# Altium schematic symbol library SparkFun-Retired.SCHLIB: 390 symbols (part 5 of 5)
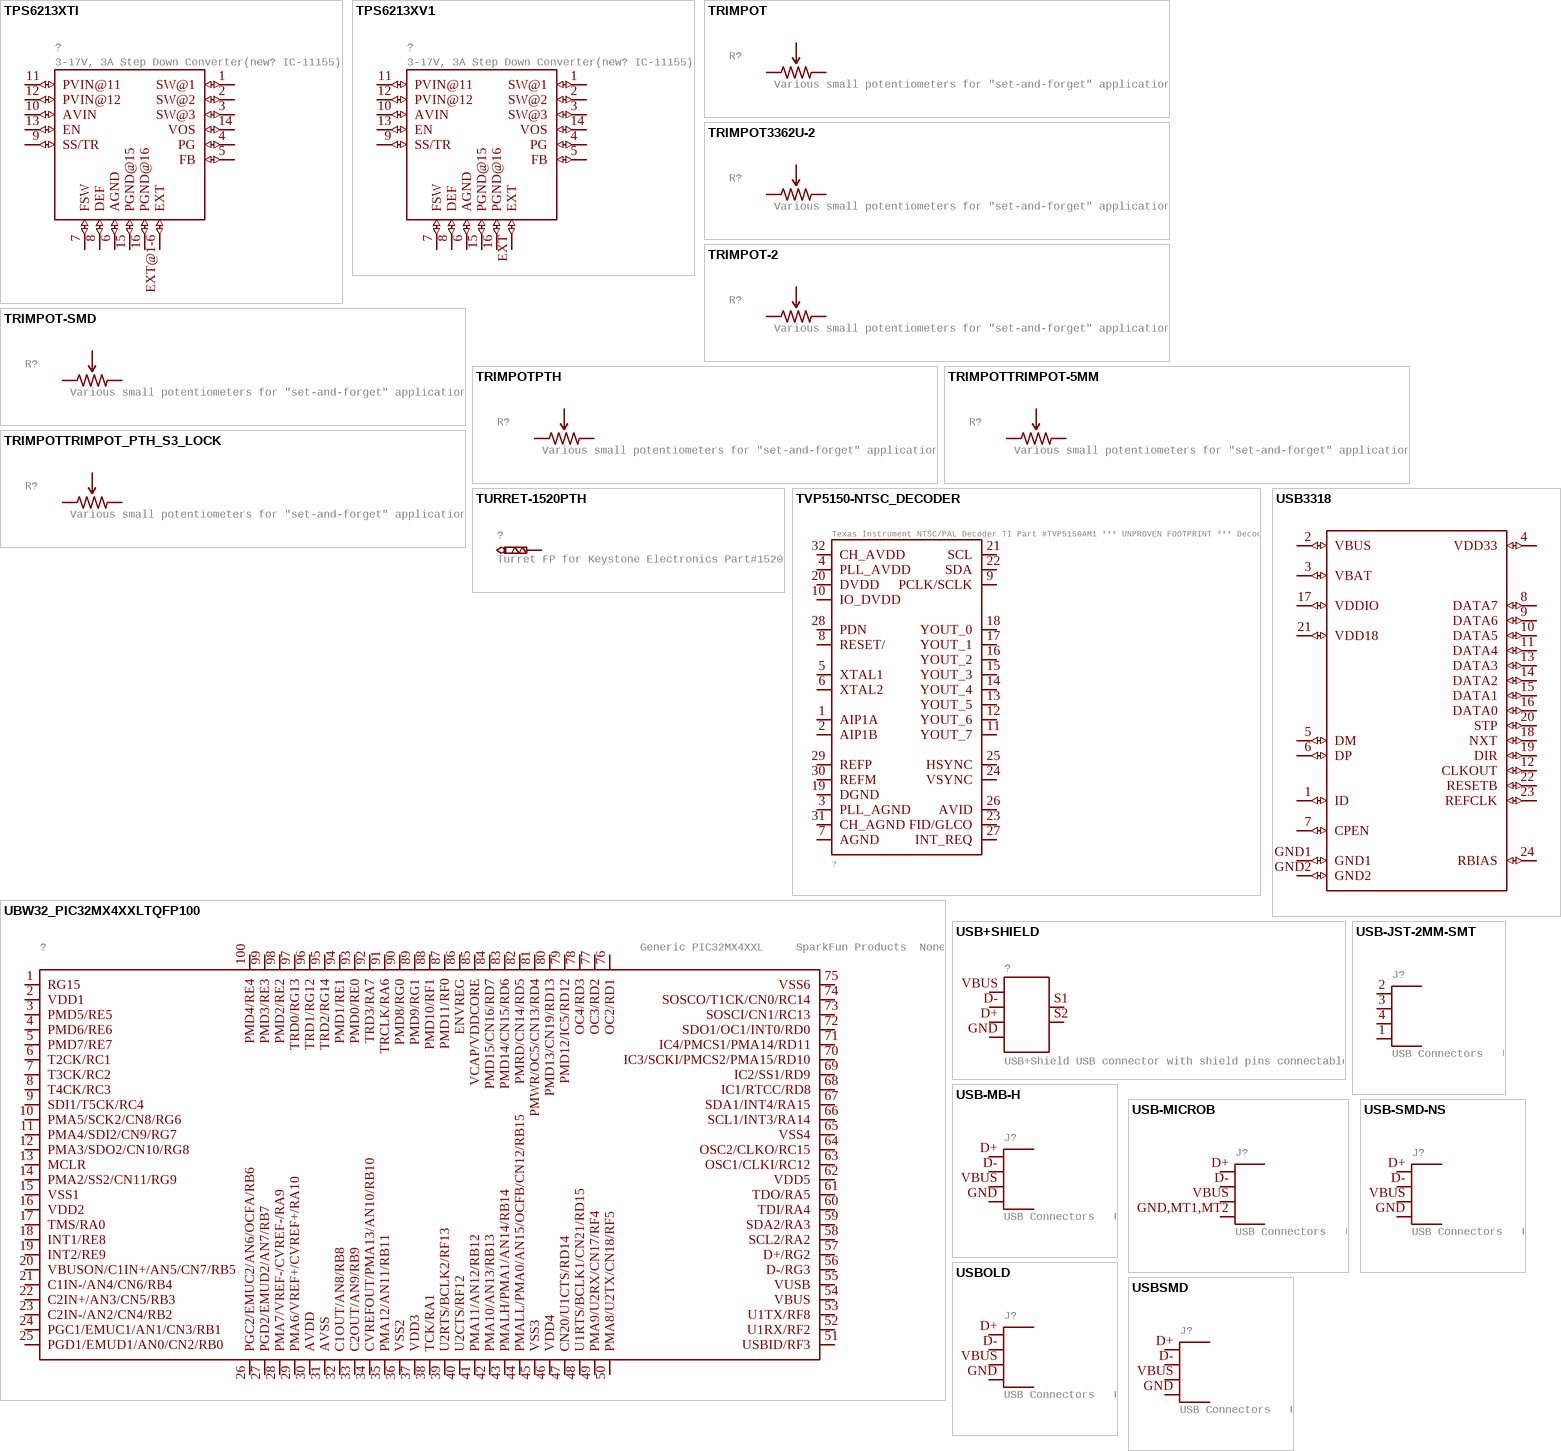
[diagram p30: symbols TPS6213XTI to USBSMD]

## TPS6213XV1
designator ?, comment 3-17V, 3A Step Down Converter(new? IC-11155)
GateName_1: G$1; SymbolName_1: TPS6213X; DeviceName: V1; PROD_ID: IC-11630; LibraryName: SparkFun-Retired; DeviceSetName: TPS6213X; Package: QFN16-3X3MM
footprint QFN16-3X3MM
pins: 1 SW@1 (io), 2 SW@2 (io), 3 SW@3 (io), 4 PG (io), 5 FB (io), 6 AGND (io), 7 FSW (io), 8 DEF (io), 9 SS/TR (io), 10 AVIN (io), 11 PVIN@11 (io), 12 PVIN@12 (io), 13 EN (io), 14 VOS (io), 15 PGND@15 (io), 16 PGND@16 (io), EXT (io)

## TRIMPOT
designator R?, comment Various small potentiometers for "set-and-forget" applications
GateName_1: R?; SymbolName_1: TRIMPOT-1; DeviceSetName: TRIMPOT; LibraryName: SparkFun-Retired; Package: TRIMPOT-5MM-V2
footprint TRIMPOT-5MM-V2
pins: A CCW, B WIPER, C CW

## TRIMPOT3362U-2
designator R?, comment Various small potentiometers for "set-and-forget" applications
GateName_1: R?; SymbolName_1: TRIMPOT-1; DeviceName: 3362U-2; DeviceSetName: TRIMPOT; PROD_ID: RES-08876; LibraryName: SparkFun-Retired; Package: 3362U-2
footprint 3362U-2
pins: 1 CCW, 2 WIPER, 3 CW

## TRIMPOT-2
designator R?, comment Various small potentiometers for "set-and-forget" applications
GateName_1: R?; SymbolName_1: TRIMPOT-1; DeviceName: -2; DeviceSetName: TRIMPOT; LibraryName: SparkFun-Retired; Package: TRIMPOT_TC33
footprint TRIMPOT_TC33
pins: 1 CCW, 2 WIPER, 3 CW

## TRIMPOT-SMD
designator R?, comment Various small potentiometers for "set-and-forget" applications
GateName_1: R?; SymbolName_1: TRIMPOT-1; DeviceName: -SMD; DeviceSetName: TRIMPOT; PROD_ID: RES-08048; LibraryName: SparkFun-Retired; Package: TRIMPOT-3MM
footprint TRIMPOT-3MM
pins: 1 CCW, 2 WIPER, 3 CW

## TRIMPOTPTH
designator R?, comment Various small potentiometers for "set-and-forget" applications
GateName_1: R?; SymbolName_1: TRIMPOT-1; DeviceName: PTH; DeviceSetName: TRIMPOT; PROD_ID: RES-08445; LibraryName: SparkFun-Retired; Package: TRIM_POT_PTH
footprint TRIM_POT_PTH
pins: 1 CCW, 2 WIPER, 3 CW

## TRIMPOTTRIMPOT-5MM
designator R?, comment Various small potentiometers for "set-and-forget" applications
GateName_1: R?; SymbolName_1: TRIMPOT-1; DeviceName: TRIMPOT-5MM; DeviceSetName: TRIMPOT; PROD_ID: RES-11156; LibraryName: SparkFun-Retired; Package: TRIMPOT-5MM
footprint TRIMPOT-5MM
pins: A CCW, B WIPER, C CW

## TRIMPOTTRIMPOT_PTH_S3_LOCK
designator R?, comment Various small potentiometers for "set-and-forget" applications
GateName_1: R?; SymbolName_1: TRIMPOT-1; DeviceName: TRIMPOT_PTH_S3_LOCK; DeviceSetName: TRIMPOT; LibraryName: SparkFun-Retired; Package: TRIMPOT_PTH_S3_LOCK
footprint TRIMPOT_PTH_S3_LOCK
pins: 1 CCW, 2 WIPER, 3 CW

## TURRET-1520PTH
designator ?, comment Turret FP for Keystone Electronics Part#1520
GateName_1: G$1; DeviceName: PTH; PROD_ID: CONN-09156; SymbolName_1: TURRET; LibraryName: SparkFun-Retired; DeviceSetName: TURRET-1520; Package: 1X01_TURRET
footprint 1X01_TURRET
pins: 1 (io)

## TVP5150-NTSC_DECODER
designator ?, comment Texas Instrument NTSC/PAL Decoder TI Part #TVP5150AM1 *** UNPROVEN FOOTPRINT *** Decodes NTSC video signal to YCbCr 4:2:2 signal  Retired: IC-09311 Retired: IC-09080
GateName_1: G$1; SymbolName_1: TVP5150-NTSC_DECODER-1; DeviceSetName: TVP5150-NTSC_DECODER; LibraryName: SparkFun-Retired; Package: TQFP32-5MM
footprint TQFP32-5MM
pins: 1 AIP1A (io), 2 AIP1B (io), 3 PLL_AGND (io), 4 PLL_AVDD (io), 5 XTAL1 (io), 6 XTAL2 (io), 7 AGND (io), 8 RESET/ (io), 9 PCLK/SCLK (io), 10 IO_DVDD (io), 11 YOUT_7 (io), 12 YOUT_6 (io), 13 YOUT_5 (io), 14 YOUT_4 (io), 15 YOUT_3 (io), 16 YOUT_2 (io), 17 YOUT_1 (io), 18 YOUT_0 (io), 19 DGND (io), 20 DVDD (io), 21 SCL (io), 22 SDA (io), 23 FID/GLCO (io), 24 VSYNC (io), 25 HSYNC (io), 26 AVID (io), 27 INT_REQ (io), 28 PDN (io), 29 REFP (io), 30 REFM (io), 31 CH_AGND (io), 32 CH_AVDD (io)

## UBW32_PIC32MX4XXLTQFP100
designator ?, comment Generic PIC32MX4XXL     SparkFun Products  None
GateName_1: G$1; SymbolName_1: UBW32_PIC32MX4XXL; DeviceName: TQFP100; LibraryName: SparkFun-Retired; DeviceSetName: UBW32_PIC32MX4XXL; Package: UBW32_TQFP100_MCU
footprint UBW32_TQFP100_MCU
pins: 1 RG15 (io), 2 VDD1 (io), 3 PMD5/RE5 (io), 4 PMD6/RE6 (io), 5 PMD7/RE7 (io), 6 T2CK/RC1 (io), 7 T3CK/RC2 (io), 8 T4CK/RC3 (io), 9 SDI1/T5CK/RC4 (io), 10 PMA5/SCK2/CN8/RG6 (io), 11 PMA4/SDI2/CN9/RG7 (io), 12 PMA3/SDO2/CN10/RG8 (io), 13 MCLR (io), 14 PMA2/SS2/CN11/RG9 (io), 15 VSS1 (io), 16 VDD2 (io), 17 TMS/RA0 (io), 18 INT1/RE8 (io), 19 INT2/RE9 (io), 20 VBUSON/C1IN+/AN5/CN7/RB5 (io), 21 C1IN-/AN4/CN6/RB4 (io), 22 C2IN+/AN3/CN5/RB3 (io), 23 C2IN-/AN2/CN4/RB2 (io), 24 PGC1/EMUC1/AN1/CN3/RB1 (io), 25 PGD1/EMUD1/AN0/CN2/RB0 (io), 26 PGC2/EMUC2/AN6/OCFA/RB6 (io), 27 PGD2/EMUD2/AN7/RB7 (io), 28 PMA7/VREF-/CVREF-/RA9 (io), 29 PMA6/VREF+/CVREF+/RA10 (io), 30 AVDD (io), 31 AVSS (io), 32 C1OUT/AN8/RB8 (io), 33 C2OUT/AN9/RB9 (io), 34 CVREFOUT/PMA13/AN10/RB10 (io), 35 PMA12/AN11/RB11 (io), 36 VSS2 (io), 37 VDD3 (io), 38 TCK/RA1 (io), 39 U2RTS/BCLK2/RF13 (io), 40 U2CTS/RF12 (io), 41 PMA11/AN12/RB12 (io), 42 PMA10/AN13/RB13 (io), 43 PMALH/PMA1/AN14/RB14 (io), 44 PMALL/PMA0/AN15/OCFB/CN12/RB15 (io), 45 VSS3 (io), 46 VDD4 (io), 47 CN20/U1CTS/RD14 (io), 48 U1RTS/BCLK1/CN21/RD15 (io), 49 PMA9/U2RX/CN17/RF4 (io), 50 PMA8/U2TX/CN18/RF5 (io), 51 USBID/RF3 (io), 52 U1RX/RF2 (io), 53 U1TX/RF8 (io), 54 VBUS (io), 55 VUSB (io), 56 D-/RG3 (io), 57 D+/RG2 (io), 58 SCL2/RA2 (io), 59 SDA2/RA3 (io), 60 TDI/RA4 (io), 61 TDO/RA5 (io), 62 VDD5 (io), 63 OSC1/CLKI/RC12 (io), 64 OSC2/CLKO/RC15 (io), 65 VSS4 (io), 66 SCL1/INT3/RA14 (io), 67 SDA1/INT4/RA15 (io), 68 IC1/RTCC/RD8 (io), 69 IC2/SS1/RD9 (io), 70 IC3/SCKI/PMCS2/PMA15/RD10 (io), 71 IC4/PMCS1/PMA14/RD11 (io), 72 SDO1/OC1/INT0/RD0 (io), 73 SOSCI/CN1/RC13 (io), 74 SOSCO/T1CK/CN0/RC14 (io), 75 VSS6 (io), 76 OC2/RD1 (io), 77 OC3/RD2 (io), 78 OC4/RD3 (io), 79 PMD12/IC5/RD12 (io), 80 PMD13/CN19/RD13 (io), 81 PMWR/OC5/CN13/RD4 (io), 82 PMRD/CN14/RD5 (io), 83 PMD14/CN15/RD6 (io), 84 PMD15/CN16/RD7 (io), 85 VCAP/VDDCORE (io), 86 ENVREG (io), 87 PMD11/RF0 (io), 88 PMD10/RF1 (io), 89 PMD9/RG1 (io), 90 PMD8/RG0 (io), 91 TRCLK/RA6 (io), 92 TRD3/RA7 (io), 93 PMD0/RE0 (io), 94 PMD1/RE1 (io), 95 TRD2/RG14 (io), 96 TRD1/RG12 (io), 97 TRD0/RG13 (io), 98 PMD2/RE2 (io), 99 PMD3/RE3 (io), 100 PMD4/RE4 (io)

## USB3318
designator ?, comment Hi-speed USB transceiver   Retired  (value not drawn)
GateName_1: G$1; SymbolName_1: USB3318; LibraryName: SparkFun-Retired; DeviceSetName: USB3318; Package: QFN-24-USB
footprint QFN-24-USB
pins: 1 ID (io), 2 VBUS (io), 3 VBAT (io), 4 VDD33 (io), 5 DM (io), 6 DP (io), 7 CPEN (io), 8 DATA7 (io), 9 DATA6 (io), 10 DATA5 (io), 11 DATA4 (io), 12 CLKOUT (io), 13 DATA3 (io), 14 DATA2 (io), 15 DATA1 (io), 16 DATA0 (io), 17 VDDIO (io), 18 NXT (io), 19 DIR (io), 20 STP (io), 21 VDD18 (io), 22 RESETB (io), 23 REFCLK (io), 24 RBIAS (io), GND1 (io), GND2 (io)

## USB+SHIELD
designator ?, comment USB+Shield USB connector with shield pins connectable
GateName_1: G$1; SymbolName_1: USB+SHIELD; LibraryName: SparkFun-Retired; DeviceSetName: USB+SHIELD; Package: USB-B-PTH
footprint USB-B-PTH
pins: D+ (io), D- (io), GND (power), S1 (io), S2 (io), VBUS (power)

## USB-JST-2MM-SMT
designator J?, comment USB Connectors   USB-B-PTH is fully proven SKU : PRT-00139/CONN-08278    USB-miniB is fully proven SKU : PRT-00587    USB-A-PCB is untested.    USB-A-H is throughly reviewed, but untested. Spark Fun Electronics SKU : PRT-00437    USB-B-SMT is throughly reviewed, but untested. Needs silkscreen touching up.    USB-A-S has not been used/tested    USB-MB-H has not been used/tested    USB-MICROB has been used. CONN-09505
GateName_1: G$1; DeviceName: -JST-2MM-SMT; PROD_ID: CONN-08193; SymbolName_1: USB; LibraryName: SparkFun-Retired; DeviceSetName: USB; Package: S4B-PH
footprint S4B-PH
pins: 1 GND (io), 2 D+ (io), 3 D- (io), 4 VBUS (io)

## USB-MB-H
designator J?, comment USB Connectors   USB-B-PTH is fully proven SKU : PRT-00139/CONN-08278    USB-miniB is fully proven SKU : PRT-00587    USB-A-PCB is untested.    USB-A-H is throughly reviewed, but untested. Spark Fun Electronics SKU : PRT-00437    USB-B-SMT is throughly reviewed, but untested. Needs silkscreen touching up.    USB-A-S has not been used/tested    USB-MB-H has not been used/tested    USB-MICROB has been used. CONN-09505
GateName_1: G$1; DeviceName: -MB-H; SymbolName_1: USB; LibraryName: SparkFun-Retired; DeviceSetName: USB; Package: USB-MB-H
footprint USB-MB-H
pins: D+ (io), D- (io), GND (io), VBUS (io)

## USB-MICROB
designator J?, comment USB Connectors   USB-B-PTH is fully proven SKU : PRT-00139/CONN-08278    USB-miniB is fully proven SKU : PRT-00587    USB-A-PCB is untested.    USB-A-H is throughly reviewed, but untested. Spark Fun Electronics SKU : PRT-00437    USB-B-SMT is throughly reviewed, but untested. Needs silkscreen touching up.    USB-A-S has not been used/tested    USB-MB-H has not been used/tested    USB-MICROB has been used. CONN-09505
GateName_1: G$1; SymbolName_1: USB; DeviceName: -MICROB; LibraryName: SparkFun-Retired; DeviceSetName: USB; Package: USB-MICROB; PROD_ID: CONN-09505
footprint USB-MICROB
pins: D+ (io), D- (io), GND,MT1,MT2 GND (io), VBUS (io)

## USB-SMD-NS
designator J?, comment USB Connectors   USB-B-PTH is fully proven SKU : PRT-00139/CONN-08278    USB-miniB is fully proven SKU : PRT-00587    USB-A-PCB is untested.    USB-A-H is throughly reviewed, but untested. Spark Fun Electronics SKU : PRT-00437    USB-B-SMT is throughly reviewed, but untested. Needs silkscreen touching up.    USB-A-S has not been used/tested    USB-MB-H has not been used/tested    USB-MICROB has been used. CONN-09505
GateName_1: G$1; DeviceName: -SMD-NS; SymbolName_1: USB; LibraryName: SparkFun-Retired; DeviceSetName: USB; Package: USB-MINIB-NOSTOP
footprint USB-MINIB-NOSTOP
pins: D+ (io), D- (io), GND (io), VBUS (io)

## USBOLD
designator J?, comment USB Connectors   USB-B-PTH is fully proven SKU : PRT-00139/CONN-08278    USB-miniB is fully proven SKU : PRT-00587    USB-A-PCB is untested.    USB-A-H is throughly reviewed, but untested. Spark Fun Electronics SKU : PRT-00437    USB-B-SMT is throughly reviewed, but untested. Needs silkscreen touching up.    USB-A-S has not been used/tested    USB-MB-H has not been used/tested    USB-MICROB has been used. CONN-09505
GateName_1: G$1; DeviceName: OLD; SymbolName_1: USB; LibraryName: SparkFun-Retired; DeviceSetName: USB; Package: USB-MINIB-OLD
footprint USB-MINIB-OLD
pins: D+ (io), D- (io), GND (io), VBUS (io)

## USBSMD
designator J?, comment USB Connectors   USB-B-PTH is fully proven SKU : PRT-00139/CONN-08278    USB-miniB is fully proven SKU : PRT-00587    USB-A-PCB is untested.    USB-A-H is throughly reviewed, but untested. Spark Fun Electronics SKU : PRT-00437    USB-B-SMT is throughly reviewed, but untested. Needs silkscreen touching up.    USB-A-S has not been used/tested    USB-MB-H has not been used/tested    USB-MICROB has been used. CONN-09505
GateName_1: G$1; DeviceName: SMD; PROD_ID: CONN-08193; SymbolName_1: USB; LibraryName: SparkFun-Retired; DeviceSetName: USB; Package: USB-MINIB
footprint USB-MINIB
pins: D+ (io), D- (io), GND (io), VBUS (io)

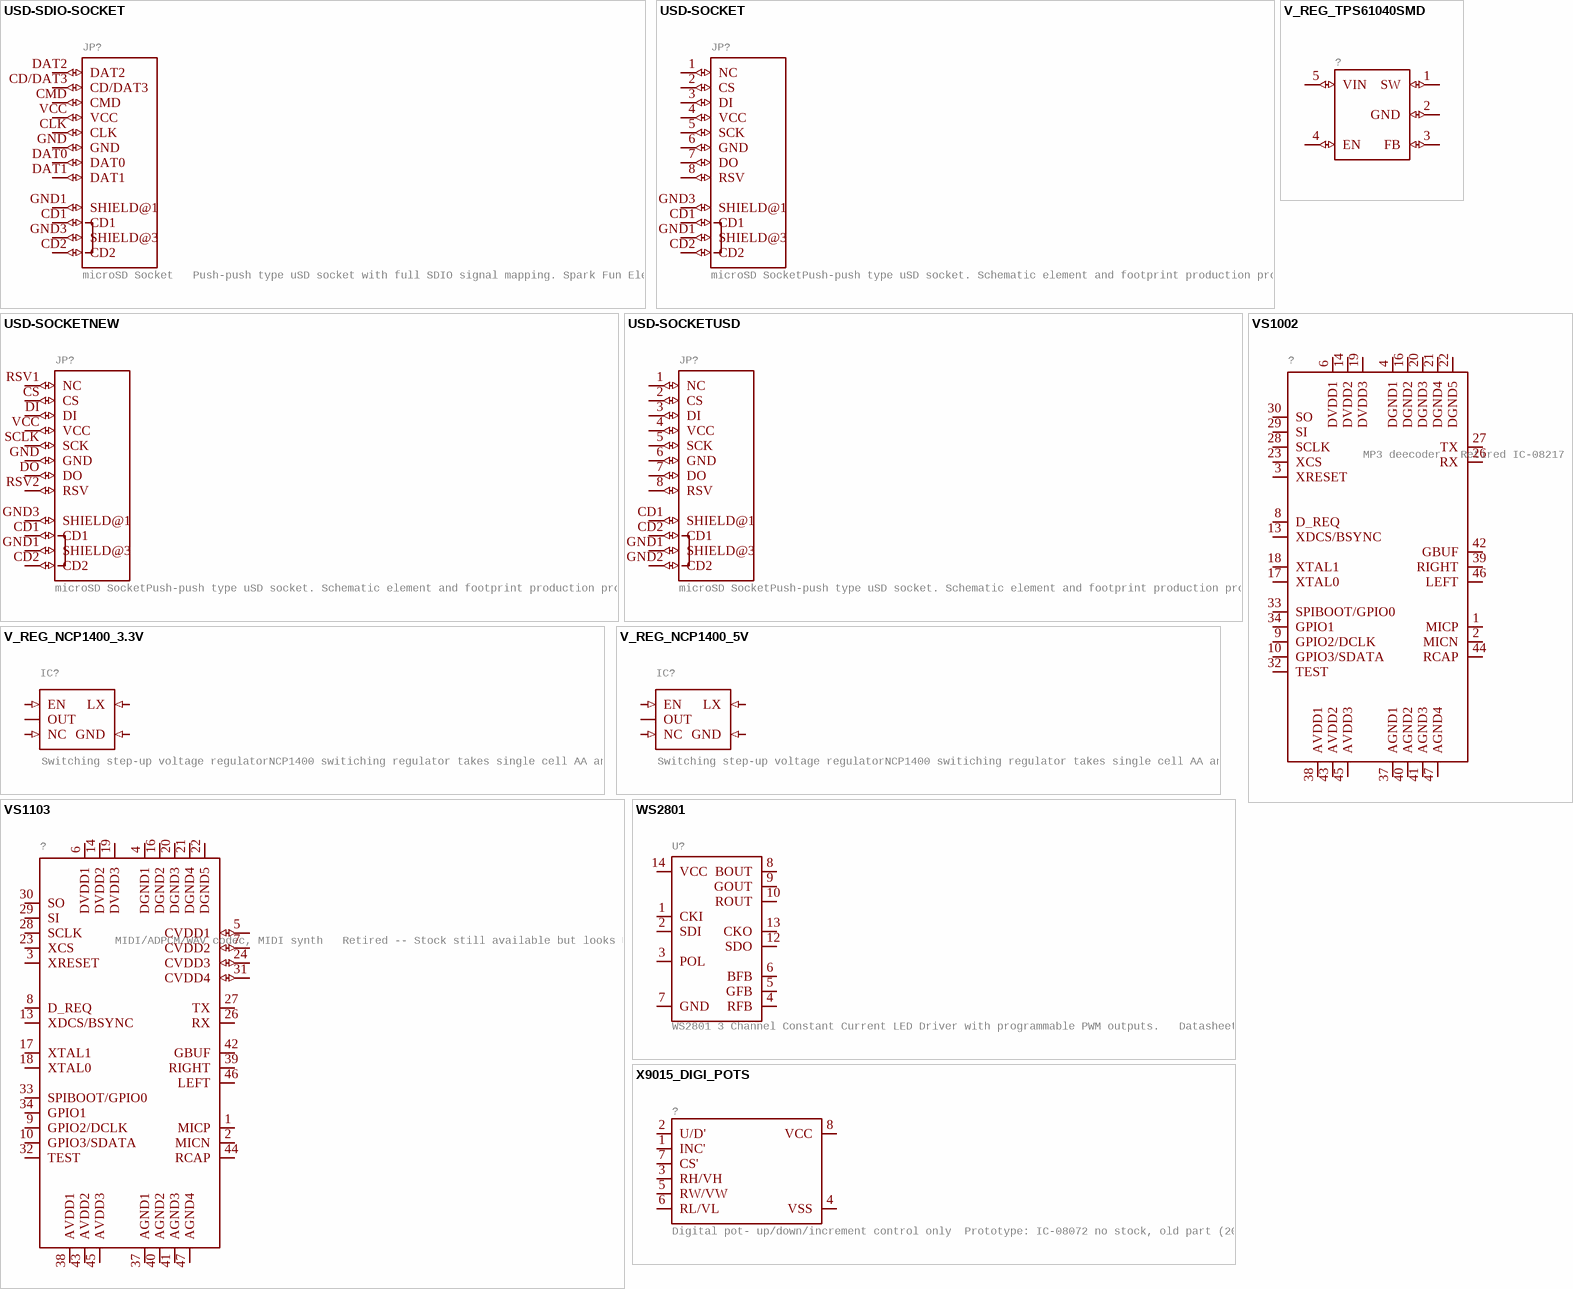
[diagram p23: symbols USD-SDIO-SOCKET to X9015_DIGI_POTS]

## USD-SDIO-SOCKET
designator JP?, comment microSD Socket   Push-push type uSD socket with full SDIO signal mapping. Spark Fun Electronics SKU : PRT-00127. tDoc lines correctly indicate media card edge positions when inserting (unlocked, locked, depressed). NOTE: CD1 and CD2 are connected internally, and short to ground when card is removed.
GateName_1: G$1; SymbolName_1: USDCARD_SDIO; DeviceSetName: USD-SDIO-SOCKET; PROD_ID: CONN-07820; LibraryName: SparkFun-Retired; Package: MICRO-SD-SOCKET-SDIO
footprint MICRO-SD-SOCKET-SDIO
pins: CD1 (io), CD2 (io), CD/DAT3 (io), CLK (io), CMD (io), DAT0 (io), DAT1 (io), DAT2 (io), GND (io), GND1 SHIELD@1 (io), GND3 SHIELD@3 (io), VCC (io)

## USD-SOCKET
designator JP?, comment microSD SocketPush-push type uSD socket. Schematic element and footprint production proven. Spark Fun Electronics SKU : PRT-00127. tDoc lines correctly indicate media card edge positions when inserting (unlocked, locked, depressed). NOTE: CD1 and CD2 are connected internally
GateName_1: G$1; SymbolName_1: USDCARD; DeviceSetName: USD-SOCKET; PROD_ID: CONN-07820; LibraryName: SparkFun-Retired; Package: MICROSD_1:1
footprint MICROSD_1:1
pins: 1 NC (io), 2 CS (io), 3 DI (io), 4 VCC (io), 5 SCK (io), 6 GND (io), 7 DO (io), 8 RSV (io), CD1 (io), CD2 (io), GND1 SHIELD@3 (io), GND3 SHIELD@1 (io)

## USD-SOCKETNEW
designator JP?, comment microSD SocketPush-push type uSD socket. Schematic element and footprint production proven. Spark Fun Electronics SKU : PRT-00127. tDoc lines correctly indicate media card edge positions when inserting (unlocked, locked, depressed). NOTE: CD1 and CD2 are connected internally
GateName_1: G$1; SymbolName_1: USDCARD; DeviceName: NEW; DeviceSetName: USD-SOCKET; PROD_ID: CONN-07820; LibraryName: SparkFun-Retired; Package: MICRO-SD-SOCKET-PP
footprint MICRO-SD-SOCKET-PP
pins: CD1 (io), CD2 (io), CS (io), DI (io), DO (io), GND (io), GND1 SHIELD@3 (io), GND3 SHIELD@1 (io), RSV1 NC (io), RSV2 RSV (io), SCLK SCK (io), VCC (io)

## USD-SOCKETUSD
designator JP?, comment microSD SocketPush-push type uSD socket. Schematic element and footprint production proven. Spark Fun Electronics SKU : PRT-00127. tDoc lines correctly indicate media card edge positions when inserting (unlocked, locked, depressed). NOTE: CD1 and CD2 are connected internally
GateName_1: G$1; SymbolName_1: USDCARD; DeviceSetName: USD-SOCKET; DeviceName: USD; LibraryName: SparkFun-Retired; Package: USD-SOCKET-PP
footprint USD-SOCKET-PP
pins: 1 NC (io), 2 CS (io), 3 DI (io), 4 VCC (io), 5 SCK (io), 6 GND (io), 7 DO (io), 8 RSV (io), CD1 SHIELD@1 (io), CD2 CD1 (io), GND1 SHIELD@3 (io), GND2 CD2 (io)

## V_REG_NCP1400_3.3V
designator IC?, comment Switching step-up voltage regulatorNCP1400 switiching regulator takes single cell AA and outputs 100mA at 3.3V or 5V with minimal number of external components.
GateName_1: G$1; DeviceName: _3.3V; DeviceSetName: V_REG_NCP1400; PROD_ID: IC-10788; SymbolName_1: NCP1400; LibraryName: SparkFun-Retired; Package: SOT23-5
footprint SOT23-5
pins: 1 EN (in), 2 OUT, 3 NC (in), 4 GND (in), 5 LX (in)

## V_REG_NCP1400_5V
designator IC?, comment Switching step-up voltage regulatorNCP1400 switiching regulator takes single cell AA and outputs 100mA at 3.3V or 5V with minimal number of external components.
GateName_1: G$1; DeviceName: _5V; DeviceSetName: V_REG_NCP1400; PROD_ID: IC-10787; SymbolName_1: NCP1400; LibraryName: SparkFun-Retired; Package: SOT23-5
footprint SOT23-5
pins: 1 EN (in), 2 OUT, 3 NC (in), 4 GND (in), 5 LX (in)

## V_REG_TPS61040SMD
designator ?
GateName_1: G$1; SymbolName_1: TPS61040; DeviceName: SMD; DeviceSetName: V_REG_TPS61040; LibraryName: SparkFun-Retired; Package: SOT23-5
footprint SOT23-5
pins: 1 SW (io), 2 GND (io), 3 FB (io), 4 EN (io), 5 VIN (io)

## VS1002
designator ?, comment MP3 deecoder   Retired IC-08217
GateName_1: G$1; SymbolName_1: VS1002; LibraryName: SparkFun-Retired; DeviceSetName: VS1002; Package: LQFP-48
footprint LQFP-48
pins: 1 MICP (io), 2 MICN (io), 3 XRESET (io), 4 DGND1 (power), 6 DVDD1 (power), 8 D_REQ (io), 9 GPIO2/DCLK (io), 10 GPIO3/SDATA (io), 13 XDCS/BSYNC (io), 14 DVDD2 (power), 16 DGND2 (io), 17 XTAL0 (io), 18 XTAL1 (io), 19 DVDD3 (power), 20 DGND3 (io), 21 DGND4 (io), 22 DGND5 (io), 23 XCS (io), 26 RX (io), 27 TX (io), 28 SCLK (io), 29 SI (io), 30 SO (io), 32 TEST (io), 33 SPIBOOT/GPIO0 (io), 34 GPIO1 (io), 37 AGND1 (io), 38 AVDD1 (power), 39 RIGHT (io), 40 AGND2 (io), 41 AGND3 (io), 42 GBUF (io), 43 AVDD2 (power), 44 RCAP (io), 45 AVDD3 (power), 46 LEFT (io), 47 AGND4 (io)

## VS1103
designator ?, comment MIDI/ADPCM/WAV codec, MIDI synth   Retired -- Stock still available but looks EOL
GateName_1: G$1; SymbolName_1: VS1103; LibraryName: SparkFun-Retired; DeviceSetName: VS1103; Package: LQFP-48
footprint LQFP-48
pins: 1 MICP (io), 2 MICN (io), 3 XRESET (io), 4 DGND1 (power), 5 CVDD1 (io), 6 DVDD1 (power), 7 CVDD2 (io), 8 D_REQ (io), 9 GPIO2/DCLK (io), 10 GPIO3/SDATA (io), 13 XDCS/BSYNC (io), 14 DVDD2 (power), 16 DGND2 (io), 17 XTAL1 (io), 18 XTAL0 (io), 19 DVDD3 (power), 20 DGND3 (io), 21 DGND4 (io), 22 DGND5 (io), 23 XCS (io), 24 CVDD3 (io), 26 RX (io), 27 TX (io), 28 SCLK (io), 29 SI (io), 30 SO (io), 31 CVDD4 (io), 32 TEST (io), 33 SPIBOOT/GPIO0 (io), 34 GPIO1 (io), 37 AGND1 (io), 38 AVDD1 (power), 39 RIGHT (io), 40 AGND2 (io), 41 AGND3 (io), 42 GBUF (io), 43 AVDD2 (power), 44 RCAP (io), 45 AVDD3 (power), 46 LEFT (io), 47 AGND4 (io)

## WS2801
designator U?, comment WS2801 3 Channel Constant Current LED Driver with programmable PWM outputs.   Datasheet:  http://www.sparkfun.com/datasheets/Components/LED/WS2801.pdf   RETIRED: IC-10297 (also, wrong cat)
GateName_1: G$1; SymbolName_1: WS2801; LibraryName: SparkFun-Retired; DeviceSetName: WS2801; Package: SOP-14
footprint SOP-14
pins: 1 CKI (io), 2 SDI (io), 3 POL (io), 4 RFB (io), 5 GFB (io), 6 BFB (io), 7 GND (io), 8 BOUT (io), 9 GOUT (io), 10 ROUT (io), 12 SDO (io), 13 CKO (io), 14 VCC (io)

## X9015_DIGI_POTS
designator ?, comment Digital pot- up/down/increment control only  Prototype: IC-08072 no stock, old part (2008-2010)
GateName_1: G$1; SymbolName_1: X9015_DIGI_POT; DeviceName: S; LibraryName: SparkFun-Retired; DeviceSetName: X9015_DIGI_POT; Package: SO08
footprint SO08
pins: 1 INC' (io), 2 U/D' (io), 3 RH/VH (io), 4 VSS (power), 5 RW/VW (io), 6 RL/VL (io), 7 CS' (io), 8 VCC (power)

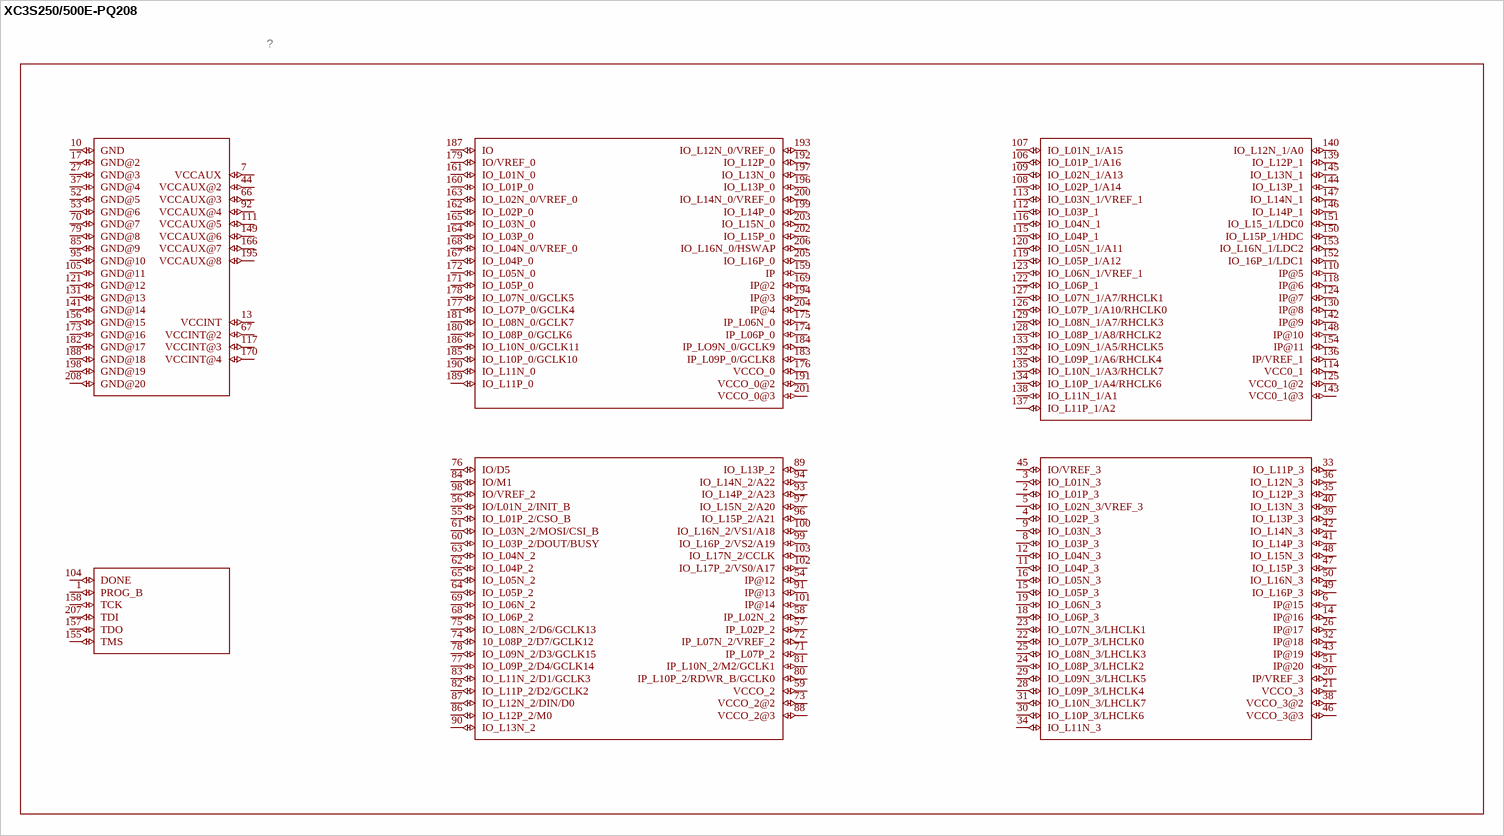
[diagram p24: symbol XC3S250/500E-PQ208]

## XC3S250/500E-PQ208
designator ?, comment Xilinx Spartan3E FPGA   Not in catalog  (value not drawn)
GateName_1: G$1; SymbolName_1: XC3S250/500E-PQ208; LibraryName: SparkFun-Retired; DeviceSetName: XC3S250/500E-PQ208; Package: PQ208
footprint PQ208
pins: 1 PROG_B (io), 2 IO_L01P_3 (io), 3 IO_L01N_3 (io), 4 IO_L02P_3 (io), 5 IO_L02N_3/VREF_3 (io), 6 IP@15 (io), 7 VCCAUX (io), 8 IO_L03P_3 (io), 9 IO_L03N_3 (io), 10 GND (io), 11 IO_L04P_3 (io), 12 IO_L04N_3 (io), 13 VCCINT (io), 14 IP@16 (io), 15 IO_L05P_3 (io), 16 IO_L05N_3 (io), 17 GND@2 (io), 18 IO_L06P_3 (io), 19 IO_L06N_3 (io), 20 IP/VREF_3 (io), 21 VCCO_3 (io), 22 IO_L07P_3/LHCLK0 (io), 23 IO_L07N_3/LHCLK1 (io), 24 IO_L08P_3/LHCLK2 (io), 25 IO_L08N_3/LHCLK3 (io), 26 IP@17 (io), 27 GND@3 (io), 28 IO_L09P_3/LHCLK4 (io), 29 IO_L09N_3/LHCLK5 (io), 30 IO_L10P_3/LHCLK6 (io), 31 IO_L10N_3/LHCLK7 (io), 32 IP@18 (io), 33 IO_L11P_3 (io), 34 IO_L11N_3 (io), 35 IO_L12P_3 (io), 36 IO_L12N_3 (io), 37 GND@4 (io), 38 VCCO_3@2 (io), 39 IO_L13P_3 (io), 40 IO_L13N_3 (io), 41 IO_L14P_3 (io), 42 IO_L14N_3 (io), 43 IP@19 (io), 44 VCCAUX@2 (io), 45 IO/VREF_3 (io), 46 VCCO_3@3 (io), 47 IO_L15P_3 (io), 48 IO_L15N_3 (io), 49 IO_L16P_3 (io), 50 IO_L16N_3 (io), 51 IP@20 (io), 52 GND@5 (io), 53 GND@6 (io), 54 IP@12 (io), 55 IO_L01P_2/CSO_B (io), 56 IO/L01N_2/INIT_B (io), 57 IP_L02P_2 (io), 58 IP_L02N_2 (io), 59 VCCO_2 (io), 60 IO_L03P_2/DOUT/BUSY (io), 61 IO_L03N_2/MOSI/CSI_B (io), 62 IO_L04P_2 (io), 63 IO_L04N_2 (io), 64 IO_L05P_2 (io), 65 IO_L05N_2 (io), 66 VCCAUX@3 (io), 67 VCCINT@2 (io), 68 IO_L06P_2 (io), 69 IO_L06N_2 (io), 70 GND@7 (io), 71 IP_L07P_2 (io), 72 IP_L07N_2/VREF_2 (io), 73 VCCO_2@2 (io), 74 10_L08P_2/D7/GCLK12 (io), 75 IO_L08N_2/D6/GCLK13 (io), 76 IO/D5 (io), 77 IO_L09P_2/D4/GCLK14 (io), 78 IO_L09N_2/D3/GCLK15 (io), 79 GND@8 (io), 80 IP_L10P_2/RDWR_B/GCLK0 (io), 81 IP_L10N_2/M2/GCLK1 (io), 82 IO_L11P_2/D2/GCLK2 (io), 83 IO_L11N_2/D1/GCLK3 (io), 84 IO/M1 (io), 85 GND@9 (io), 86 IO_L12P_2/M0 (io), 87 IO_L12N_2/DIN/D0 (io), 88 VCCO_2@3 (io), 89 IO_L13P_2 (io), 90 IO_L13N_2 (io), 91 IP@13 (io), 92 VCCAUX@4 (io), 93 IO_L14P_2/A23 (io), 94 IO_L14N_2/A22 (io), 95 GND@10 (io), 96 IO_L15P_2/A21 (io), 97 IO_L15N_2/A20 (io), 98 IO/VREF_2 (io), 99 IO_L16P_2/VS2/A19 (io), 100 IO_L16N_2/VS1/A18 (io), 101 IP@14 (io), 102 IO_L17P_2/VS0/A17 (io), 103 IO_L17N_2/CCLK (io), 104 DONE (io), 105 GND@11 (io), 106 IO_L01P_1/A16 (io), 107 IO_L01N_1/A15 (io), 108 IO_L02P_1/A14 (io), 109 IO_L02N_1/A13 (io), 110 IP@5 (io), 111 VCCAUX@5 (io), 112 IO_L03P_1 (io), 113 IO_L03N_1/VREF_1 (io), 114 VCC0_1 (io), 115 IO_L04P_1 (io), 116 IO_L04N_1 (io), 117 VCCINT@3 (io), 118 IP@6 (io), 119 IO_L05P_1/A12 (io), 120 IO_L05N_1/A11 (io), 121 GND@12 (io), 122 IO_L06P_1 (io), 123 IO_L06N_1/VREF_1 (io), 124 IP@7 (io), 125 VCC0_1@2 (io), 126 IO_L07P_1/A10/RHCLK0 (io), 127 IO_L07N_1/A7/RHCLK1 (io), 128 IO_L08P_1/A8/RHCLK2 (io), 129 IO_L08N_1/A7/RHCLK3 (io), 130 IP@8 (io), 131 GND@13 (io), 132 IO_L09P_1/A6/RHCLK4 (io), 133 IO_L09N_1/A5/RHCLK5 (io), 134 IO_L10P_1/A4/RHCLK6 (io), 135 IO_L10N_1/A3/RHCLK7 (io), 136 IP/VREF_1 (io), 137 IO_L11P_1/A2 (io), 138 IO_L11N_1/A1 (io), 139 IO_L12P_1 (io), 140 IO_L12N_1/A0 (io), 141 GND@14 (io), 142 IP@9 (io), 143 VCC0_1@3 (io), 144 IO_L13P_1 (io), 145 IO_L13N_1 (io), 146 IO_L14P_1 (io), 147 IO_L14N_1 (io), 148 IP@10 (io), 149 VCCAUX@6 (io), 150 IO_L15P_1/HDC (io), 151 IO_L15_1/LDC0 (io), 152 IO_16P_1/LDC1 (io), 153 IO_L16N_1/LDC2 (io), 154 IP@11 (io), 155 TMS (io), 156 GND@15 (io), 157 TDO (io), 158 TCK (io), 159 IP (io), 160 IO_L01P_0 (io), 161 IO_L01N_0 (io), 162 IO_L02P_0 (io), 163 IO_L02N_0/VREF_0 (io), 164 IO_L03P_0 (io), 165 IO_L03N_0 (io), 166 VCCAUX@7 (io), 167 IO_L04P_0 (io), 168 IO_L04N_0/VREF_0 (io), 169 IP@2 (io), 170 VCCINT@4 (io), 171 IO_L05P_0 (io), 172 IO_L05N_0 (io), 173 GND@16 (io), 174 IP_L06P_0 (io), 175 IP_L06N_0 (io), 176 VCCO_0 (io), 177 IO_LO7P_0/GCLK4 (io), 178 IO_L07N_0/GCLK5 (io), 179 IO/VREF_0 (io), 180 IO_L08P_0/GCLK6 (io), 181 IO_L08N_0/GCLK7 (io), 182 GND@17 (io), 183 IP_L09P_0/GCLK8 (io), 184 IP_LO9N_0/GCLK9 (io), 185 IO_L10P_0/GCLK10 (io), 186 IO_L10N_0/GCLK11 (io), 187 IO (io), 188 GND@18 (io), 189 IO_L11P_0 (io), 190 IO_L11N_0 (io), 191 VCCO_0@2 (io), 192 IO_L12P_0 (io), 193 IO_L12N_0/VREF_0 (io), 194 IP@3 (io), 195 VCCAUX@8 (io), 196 IO_L13P_0 (io), 197 IO_L13N_0 (io), 198 GND@19 (io), 199 IO_L14P_0 (io), 200 IO_L14N_0/VREF_0 (io), 201 VCCO_0@3 (io), 202 IO_L15P_0 (io), 203 IO_L15N_0 (io), 204 IP@4 (io), 205 IO_L16P_0 (io), 206 IO_L16N_0/HSWAP (io), 207 TDI (io), 208 GND@20 (io)

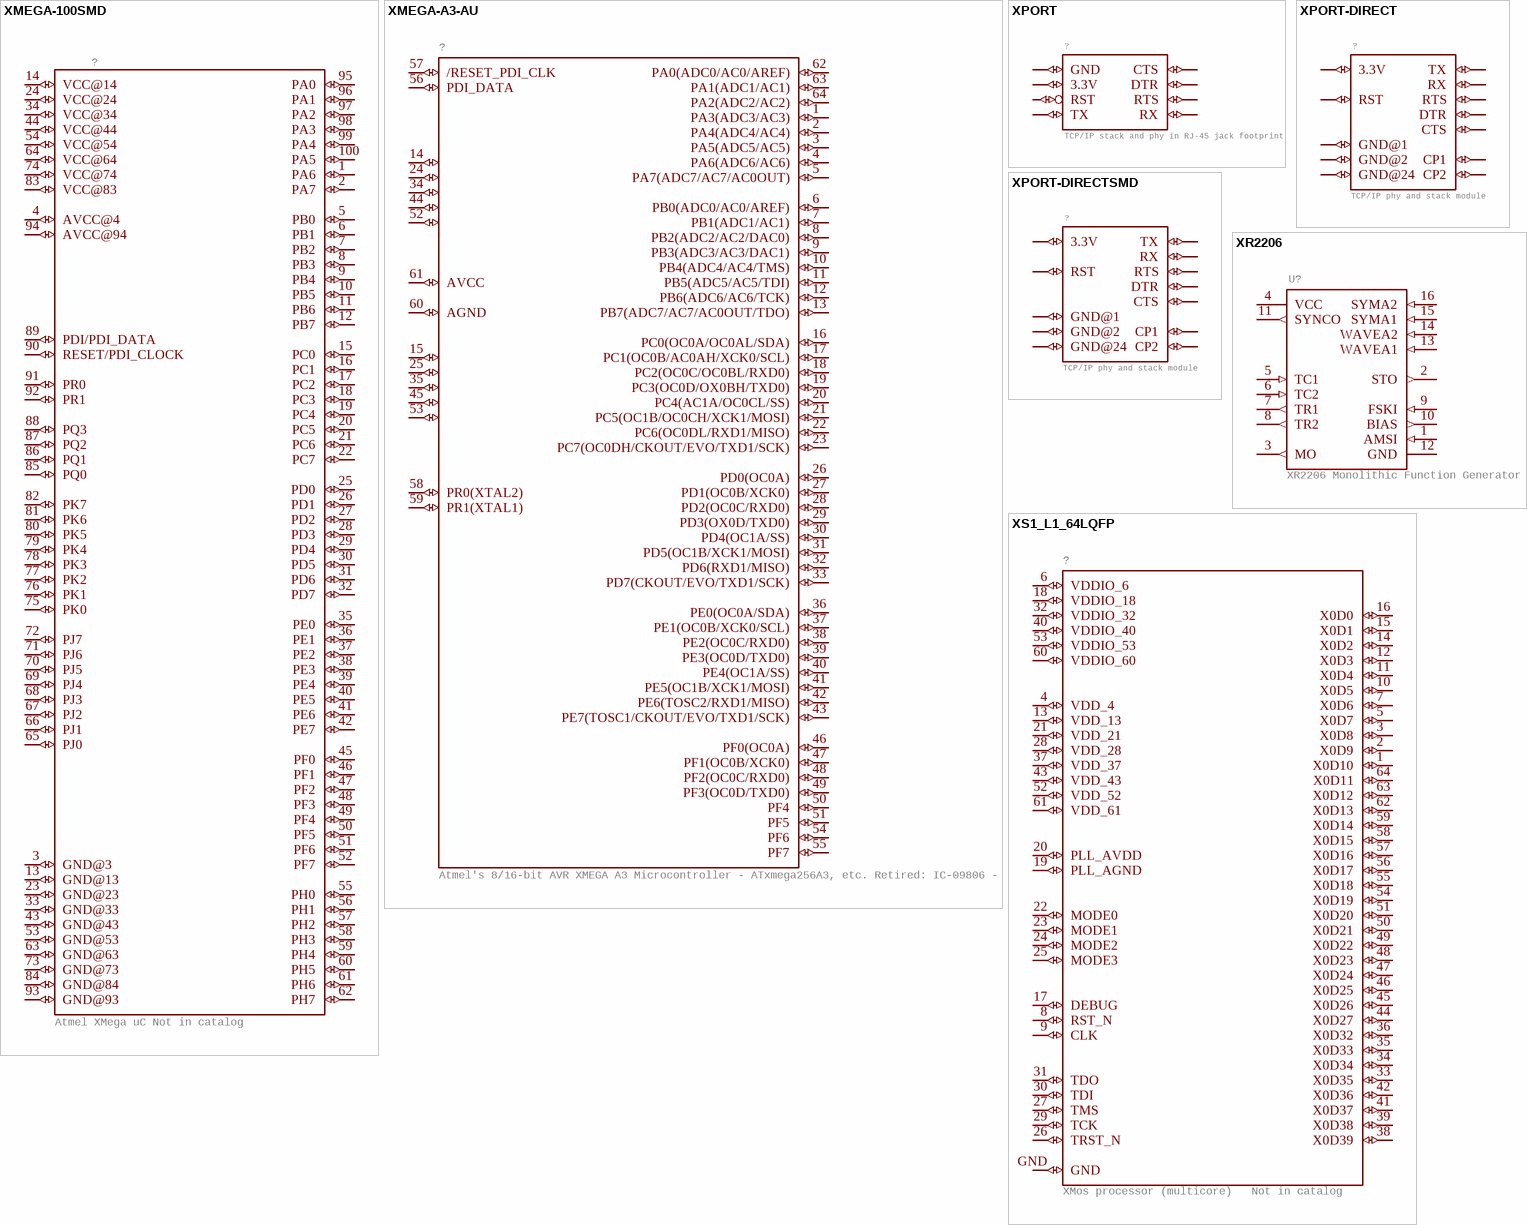
[diagram p25: symbols XMEGA-100SMD to XS1_L1_64LQFP]

## XMEGA-100SMD
designator ?, comment Atmel XMega uC Not in catalog
GateName_1: G$1; DeviceName: SMD; DeviceSetName: XMEGA-100; SymbolName_1: XMEGA; LibraryName: SparkFun-Retired; Package: TQFP-100-14X14MM_MCU
footprint TQFP-100-14X14MM_MCU
pins: 1 PA6 (io), 2 PA7 (io), 3 GND@3 (io), 4 AVCC@4 (io), 5 PB0 (io), 6 PB1 (io), 7 PB2 (io), 8 PB3 (io), 9 PB4 (io), 10 PB5 (io), 11 PB6 (io), 12 PB7 (io), 13 GND@13 (io), 14 VCC@14 (io), 15 PC0 (io), 16 PC1 (io), 17 PC2 (io), 18 PC3 (io), 19 PC4 (io), 20 PC5 (io), 21 PC6 (io), 22 PC7 (io), 23 GND@23 (io), 24 VCC@24 (io), 25 PD0 (io), 26 PD1 (io), 27 PD2 (io), 28 PD3 (io), 29 PD4 (io), 30 PD5 (io), 31 PD6 (io), 32 PD7 (io), 33 GND@33 (io), 34 VCC@34 (io), 35 PE0 (io), 36 PE1 (io), 37 PE2 (io), 38 PE3 (io), 39 PE4 (io), 40 PE5 (io), 41 PE6 (io), 42 PE7 (io), 43 GND@43 (io), 44 VCC@44 (io), 45 PF0 (io), 46 PF1 (io), 47 PF2 (io), 48 PF3 (io), 49 PF4 (io), 50 PF5 (io), 51 PF6 (io), 52 PF7 (io), 53 GND@53 (io), 54 VCC@54 (io), 55 PH0 (io), 56 PH1 (io), 57 PH2 (io), 58 PH3 (io), 59 PH4 (io), 60 PH5 (io), 61 PH6 (io), 62 PH7 (io), 63 GND@63 (io), 64 VCC@64 (io), 65 PJ0 (io), 66 PJ1 (io), 67 PJ2 (io), 68 PJ3 (io), 69 PJ4 (io), 70 PJ5 (io), 71 PJ6 (io), 72 PJ7 (io), 73 GND@73 (io), 74 VCC@74 (io), 75 PK0 (io), 76 PK1 (io), 77 PK2 (io), 78 PK3 (io), 79 PK4 (io), 80 PK5 (io), 81 PK6 (io), 82 PK7 (io), 83 VCC@83 (io), 84 GND@84 (io), 85 PQ0 (io), 86 PQ1 (io), 87 PQ2 (io), 88 PQ3 (io), 89 PDI/PDI_DATA (io), 90 RESET/PDI_CLOCK (io), 91 PR0 (io), 92 PR1 (io), 93 GND@93 (io), 94 AVCC@94 (io), 95 PA0 (io), 96 PA1 (io), 97 PA2 (io), 98 PA3 (io), 99 PA4 (io), 100 PA5 (io)

## XMEGA-A3-AU
designator ?, comment Atmel's 8/16-bit AVR XMEGA A3 Microcontroller - ATxmega256A3, etc. Retired: IC-09806 - ATXMEGA256A3 Retired: IC-09429 - ATXMEGA128A1
GateName_1: G$1; SymbolName_1: XMEGA-A3B; DeviceName: -AU; DeviceSetName: XMEGA-A3; LibraryName: SparkFun-Retired; Package: TQFP64_14X14MM_MCU
footprint TQFP64_14X14MM_MCU
pins: 1 PA3(ADC3/AC3) (io), 2 PA4(ADC4/AC4) (io), 3 PA5(ADC5/AC5) (io), 4 PA6(ADC6/AC6) (io), 5 PA7(ADC7/AC7/AC0OUT) (io), 6 PB0(ADC0/AC0/AREF) (io), 7 PB1(ADC1/AC1) (io), 8 PB2(ADC2/AC2/DAC0) (io), 9 PB3(ADC3/AC3/DAC1) (io), 10 PB4(ADC4/AC4/TMS) (io), 11 PB5(ADC5/AC5/TDI) (io), 12 PB6(ADC6/AC6/TCK) (io), 13 PB7(ADC7/AC7/AC0OUT/TDO) (io), 14 GND1 (io), 15 VCC1 (io), 16 PC0(OC0A/OC0AL/SDA) (io), 17 PC1(OC0B/AC0AH/XCK0/SCL) (io), 18 PC2(OC0C/OC0BL/RXD0) (io), 19 PC3(OC0D/OX0BH/TXD0) (io), 20 PC4(AC1A/OC0CL/SS) (io), 21 PC5(OC1B/OC0CH/XCK1/MOSI) (io), 22 PC6(OC0DL/RXD1/MISO) (io), 23 PC7(OC0DH/CKOUT/EVO/TXD1/SCK) (io), 24 GND2 (io), 25 VCC2 (io), 26 PD0(OC0A) (io), 27 PD1(OC0B/XCK0) (io), 28 PD2(OC0C/RXD0) (io), 29 PD3(OX0D/TXD0) (io), 30 PD4(OC1A/SS) (io), 31 PD5(OC1B/XCK1/MOSI) (io), 32 PD6(RXD1/MISO) (io), 33 PD7(CKOUT/EVO/TXD1/SCK) (io), 34 GND3 (io), 35 VCC3 (io), 36 PE0(OC0A/SDA) (io), 37 PE1(OC0B/XCK0/SCL) (io), 38 PE2(OC0C/RXD0) (io), 39 PE3(OC0D/TXD0) (io), 40 PE4(OC1A/SS) (io), 41 PE5(OC1B/XCK1/MOSI) (io), 42 PE6(TOSC2/RXD1/MISO) (io), 43 PE7(TOSC1/CKOUT/EVO/TXD1/SCK) (io), 44 GND4 (io), 45 VCC4 (io), 46 PF0(OC0A) (io), 47 PF1(OC0B/XCK0) (io), 48 PF2(OC0C/RXD0) (io), 49 PF3(OC0D/TXD0) (io), 50 PF4 (io), 51 PF5 (io), 52 GND5 (io), 53 VCC5 (io), 54 PF6 (io), 55 PF7 (io), 56 PDI_DATA (io), 57 /RESET_PDI_CLK (io), 58 PR0(XTAL2) (io), 59 PR1(XTAL1) (io), 60 AGND (io), 61 AVCC (io), 62 PA0(ADC0/AC0/AREF) (io), 63 PA1(ADC1/AC1) (io), 64 PA2(ADC2/AC2) (io)

## XPORT
designator ?, comment TCP/IP stack and phy in RJ-45 jack footprint
GateName_1: G$1; SymbolName_1: XPORT; LibraryName: SparkFun-Retired; DeviceSetName: XPORT; Package: XPORT
footprint XPORT
pins: P1 GND (io), P2 3.3V (io), P3 RST (io), P4 TX (io), P5 RX (io), P6 RTS (io), P7 DTR (io), P8 CTS (io)

## XPORT-DIRECT
designator ?, comment TCP/IP phy and stack module
GateName_1: G$1; SymbolName_1: XPORT_DIRECT; DeviceSetName: XPORT-DIRECT; LibraryName: SparkFun-Retired; Package: XPORT_DIRECT_MODULE
footprint XPORT_DIRECT_MODULE
pins: P1 GND@1 (io), P2 GND@2 (io), P3 3.3V (io), P5 RST (io), P7 TX (io), P9 RX (io), P11 RTS (io), P13 DTR (io), P15 CTS (io), P21 CP2 (io), P23 CP1 (io), P24 GND@24 (io)

## XPORT-DIRECTSMD
designator ?, comment TCP/IP phy and stack module
GateName_1: G$1; SymbolName_1: XPORT_DIRECT; DeviceName: SMD; DeviceSetName: XPORT-DIRECT; LibraryName: SparkFun-Retired; Package: XPORT_DIRECT_MODULE-SMD
footprint XPORT_DIRECT_MODULE-SMD
pins: P1 GND@1 (io), P2 GND@2 (io), P3 3.3V (io), P5 RST (io), P7 TX (io), P9 RX (io), P11 RTS (io), P13 DTR (io), P15 CTS (io), P21 CP2 (io), P23 CP1 (io), P24 GND@24 (io)

## XR2206
designator U?, comment XR2206 Monolithic Function Generator
GateName_1: G$1; SymbolName_1: XR2206; LibraryName: SparkFun-Retired; DeviceSetName: XR2206; Package: DIL16
footprint DIL16
pins: 1 AMSI (in), 2 STO (out), 3 MO (out), 4 VCC (power), 5 TC1 (in), 6 TC2 (in), 7 TR1 (out), 8 TR2 (out), 9 FSKI (in), 10 BIAS (out), 11 SYNCO (out), 12 GND (power), 13 WAVEA1 (in), 14 WAVEA2 (in), 15 SYMA1 (in), 16 SYMA2 (in)

## XS1_L1_64LQFP
designator ?, comment XMos processor (multicore)   Not in catalog
GateName_1: G$1; SymbolName_1: XS1-L1-64LQFP; DeviceSetName: XS1_L1_64LQFP; LibraryName: SparkFun-Retired; Package: SQFP-S-10X10-64-XS1
footprint SQFP-S-10X10-64-XS1
pins: 1 X0D10 (io), 2 X0D9 (io), 3 X0D8 (io), 4 VDD_4 (io), 5 X0D7 (io), 6 VDDIO_6 (io), 7 X0D6 (io), 8 RST_N (io), 9 CLK (io), 10 X0D5 (io), 11 X0D4 (io), 12 X0D3 (io), 13 VDD_13 (io), 14 X0D2 (io), 15 X0D1 (io), 16 X0D0 (io), 17 DEBUG (io), 18 VDDIO_18 (io), 19 PLL_AGND (io), 20 PLL_AVDD (io), 21 VDD_21 (io), 22 MODE0 (io), 23 MODE1 (io), 24 MODE2 (io), 25 MODE3 (io), 26 TRST_N (io), 27 TMS (io), 28 VDD_28 (io), 29 TCK (io), 30 TDI (io), 31 TDO (io), 32 VDDIO_32 (io), 33 X0D35 (io), 34 X0D34 (io), 35 X0D33 (io), 36 X0D32 (io), 37 VDD_37 (io), 38 X0D39 (io), 39 X0D38 (io), 40 VDDIO_40 (io), 41 X0D37 (io), 42 X0D36 (io), 43 VDD_43 (io), 44 X0D27 (io), 45 X0D26 (io), 46 X0D25 (io), 47 X0D24 (io), 48 X0D23 (io), 49 X0D22 (io), 50 X0D21 (io), 51 X0D20 (io), 52 VDD_52 (io), 53 VDDIO_53 (io), 54 X0D19 (io), 55 X0D18 (io), 56 X0D17 (io), 57 X0D16 (io), 58 X0D15 (io), 59 X0D14 (io), 60 VDDIO_60 (io), 61 VDD_61 (io), 62 X0D13 (io), 63 X0D12 (io), 64 X0D11 (io), GND (io)

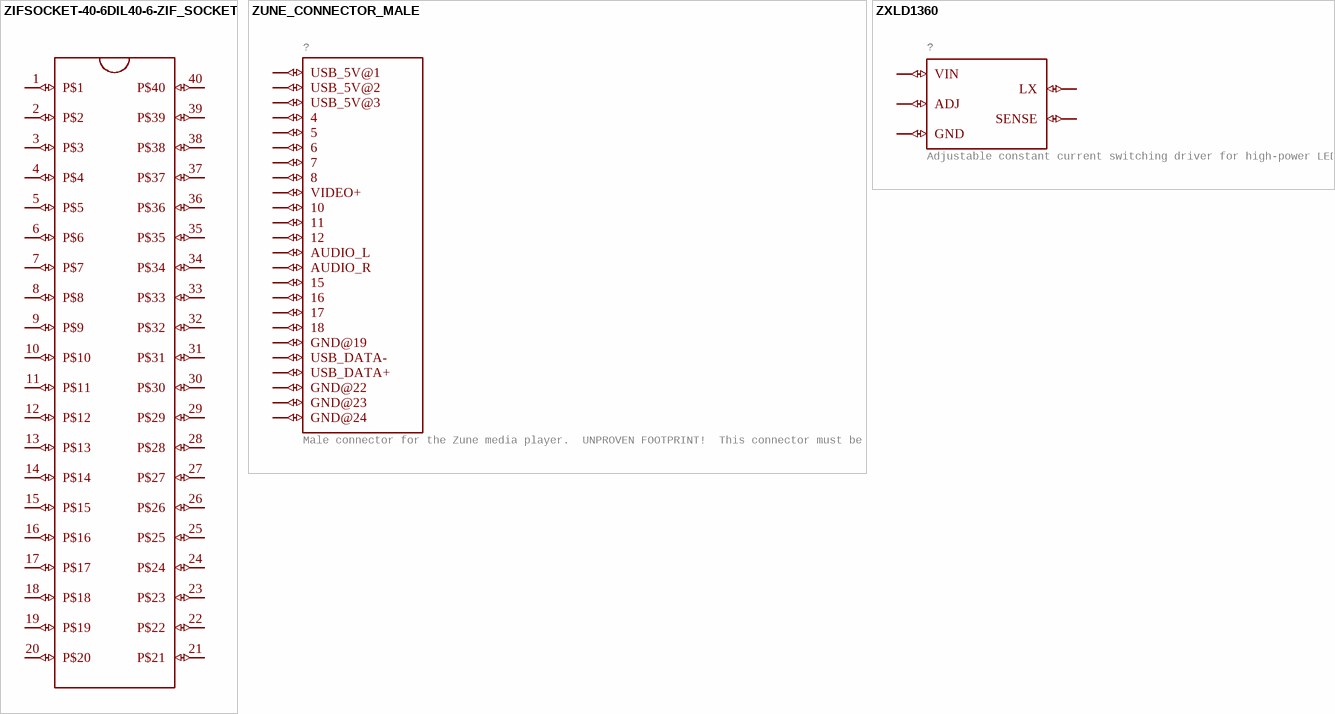
[diagram p26: symbols ZIFSOCKET-40-6DIL40-6-ZIF_SOCKET to ZXLD1360]

## ZIFSOCKET-40-6DIL40-6-ZIF_SOCKET
designator ?, comment Lever-action ZIF socket for 40-pin ICs  (value not drawn)
GateName_1: G$1; SymbolName_1: DIL-40-6; DeviceName: DIL40-6-ZIF_SOCKET; DeviceSetName: ZIFSOCKET-40-6; LibraryName: SparkFun-Retired; Package: DIL40-6-ZIF_SOCKET
footprint DIL40-6-ZIF_SOCKET
pins: 1 P$1 (io), 2 P$2 (io), 3 P$3 (io), 4 P$4 (io), 5 P$5 (io), 6 P$6 (io), 7 P$7 (io), 8 P$8 (io), 9 P$9 (io), 10 P$10 (io), 11 P$11 (io), 12 P$12 (io), 13 P$13 (io), 14 P$14 (io), 15 P$15 (io), 16 P$16 (io), 17 P$17 (io), 18 P$18 (io), 19 P$19 (io), 20 P$20 (io), 21 P$21 (io), 22 P$22 (io), 23 P$23 (io), 24 P$24 (io), 25 P$25 (io), 26 P$26 (io), 27 P$27 (io), 28 P$28 (io), 29 P$29 (io), 30 P$30 (io), 31 P$31 (io), 32 P$32 (io), 33 P$33 (io), 34 P$34 (io), 35 P$35 (io), 36 P$36 (io), 37 P$37 (io), 38 P$38 (io), 39 P$39 (io), 40 P$40 (io)

## ZUNE_CONNECTOR_MALE
designator ?, comment Male connector for the Zune media player.  UNPROVEN FOOTPRINT!  This connector must be used only with a 1.2mm PCB thickness.
GateName_1: G$1; SymbolName_1: ZUNE_CONNECTOR_MALE; LibraryName: SparkFun-Retired; DeviceSetName: ZUNE_CONNECTOR_MALE; Package: ZUNE_CONNECTOR_MALE
footprint ZUNE_CONNECTOR_MALE
pins: P$1 USB_5V@1 (io), P$2 USB_5V@2 (io), P$3 USB_5V@3 (io), P$4 4 (io), P$5 5 (io), P$6 6 (io), P$7 7 (io), P$8 8 (io), P$9 VIDEO+ (io), P$10 10 (io), P$11 11 (io), P$12 12 (io), P$13 AUDIO_L (io), P$14 AUDIO_R (io), P$15 15 (io), P$16 16 (io), P$17 17 (io), P$18 18 (io), P$19 GND@19 (io), P$20 USB_DATA- (io), P$21 USB_DATA+ (io), P$22 GND@22 (io), P$23 GND@23 (io), P$24 GND@24 (io)

## ZXLD1360
designator ?, comment Adjustable constant current switching driver for high-power LEDs
GateName_1: G$1; SymbolName_1: ZXLD1360; LibraryName: SparkFun-Retired; DeviceSetName: ZXLD1360; Package: SOT23-5
footprint SOT23-5
pins: 1 LX (io), 2 GND (io), 3 ADJ (io), 4 SENSE (io), 5 VIN (io)